# EAGLE library part TFM-105-02-L-D-LC (library Jack-connectors)
Samtec 10pin dual row SMT .050" Tiger Eye™ High Reliability Terminal Strip
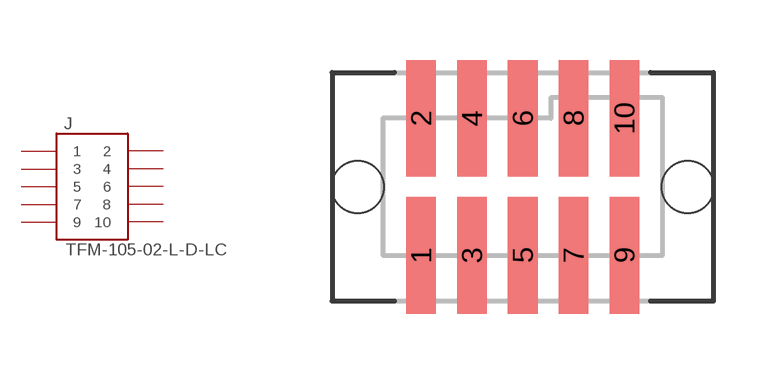
[diagram p9: symbol with the pads of TFM-105-02-L-D-LC; footprint TFM-105-02-L-D-LC]

Designator prefix J

## TFM-105-02-L-D-LC (DESCRIPTION: Samtec 10 pin dual row SMT .050" Tiger Eye™ High Reliability Terminal Strip; PACK: TFM-105-02-L-D-LC)  [TFM-105-02-L-D-LC]
1  1  pas
2  2  pas
3  3  pas
4  4  pas
5  5  pas
6  6  pas
7  7  pas
8  8  pas
9  9  pas
10  10  pas

## Footprint TFM-105-02-L-D-LC (pad centres in mm)
Samtec .050" Tiger Eye™ High Reliability Terminal Strip
smd 0.74 x 2.92: 1 -2.54,-1.715; 2 -2.54,1.715; 3 -1.27,-1.715; 4 -1.27,1.715; 5 0,-1.715; 6 0,1.715; 7 1.27,-1.715; 8 1.27,1.715; 9 2.54,-1.715; 10 2.54,1.715
hole 1.3 at -4.13,0
hole 1.3 at 4.13,0